# Altium integrated library RC0402FR-0722K1L.IntLib: 1 symbol
Pins are listed as number, name and electrical type; pins without a type are passive.

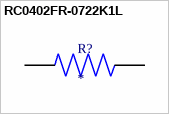
[diagram p0: symbol RC0402FR-0722K1L]

## RC0402FR-0722K1L
designator R?
THICK FILM RESISTOR, 22.1KOHM 62.5mW 1%; MP: RC0402FR-0722K1L; Package: None; Price: None; Value: *; Availability: Unavailable
footprint RESC1005X40N
pins: 1, 2